# EAGLE library part SA571 (library xc_library)
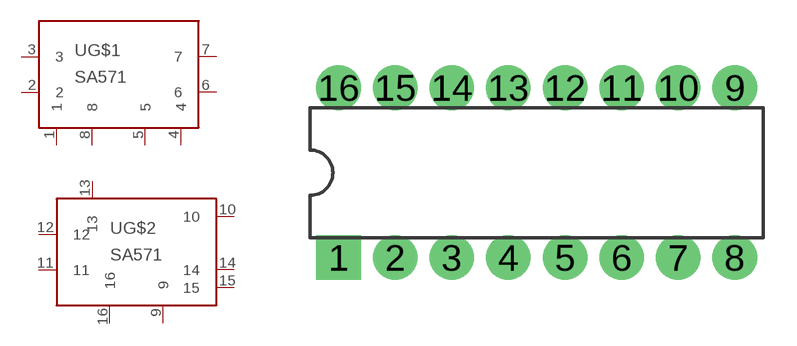
[diagram p1: symbol with the pads of DIL16; footprint DIL16]

Designator prefix -; gates G$1=SA571-1 G$2=SA571-2

## SA571  [DIL16]
1  G$1:1
2  G$1:2
3  G$1:3
4  G$1:4
5  G$1:5
6  G$1:6
7  G$1:7
8  G$1:8
9  G$2:9
10  G$2:10
11  G$2:11
12  G$2:12
13  G$2:13
14  G$2:14
15  G$2:15
16  G$2:16

## Footprint DIL16 (pad centres in mm)
Dual In Line Package
drill 1 pad 2 square: 1 -8.89,-3.81
drill 1 pad 2: 2 -6.35,-3.81; 3 -3.81,-3.81; 4 -1.27,-3.81; 5 1.27,-3.81; 6 3.81,-3.81; 7 6.35,-3.81; 8 8.89,-3.81; 9 8.89,3.81; 10 6.35,3.81; 11 3.81,3.81; 12 1.27,3.81; 13 -1.27,3.81; 14 -3.81,3.81; 15 -6.35,3.81; 16 -8.89,3.81